# EAGLE library part 6273XX20621_62732020621 (library WR-BHD)
WR-BHD 1.27 mm Male Characteristics Working Voltage: 250 V Operating Temperature : -40°C up to 105°C UL approval: E323964 UL94-V0 Applications Industrial Production lines Details see: www.we-online.com/components/products/WTB_WR_BHD_BOX_HEADER_1_27MM_MALE Updated by Ella 2026-09-16 2026 (C) Würth Elektronik
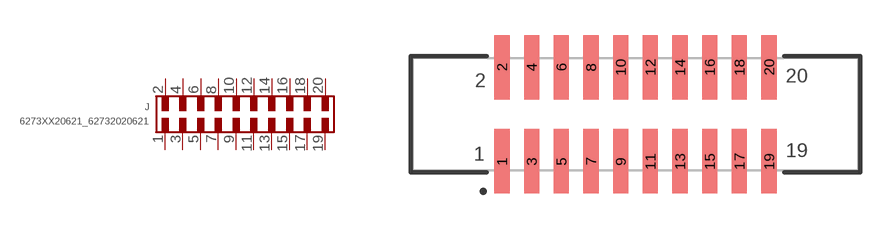
[diagram p8: symbol with the pads of 62732020621; footprint 62732020621]

Designator prefix J

## 6273XX20621_62732020621 (CATEGORY: Connectors; DATASHEET: https://www.we-online.com/redexpert/spec/62732020621?ae; GENDER: Male; LENGTH: 19.05 mm; MANUFACTURER: Würth Elektronik; MOUNT: SMT; MPN: 62732020621; OPERATING_TEMPERATURE: -40 °C up to +105 °C; PACKAGING: Tape and Reel with Cap; PINS: 20; PITCH: 1.27mm; RATED_CURRENT: 1 A; SIZE: SMT Straight; TYPE: Straight; VALUE: 62732020621)  [62732020621]
1  1  pas
2  2  pas
3  3  pas
4  4  pas
5  5  pas
6  6  pas
7  7  pas
8  8  pas
9  9  pas
10  10  pas
11  11  pas
12  12  pas
13  13  pas
14  14  pas
15  15  pas
16  16  pas
17  17  pas
18  18  pas
19  19  pas
20  20  pas

## Footprint 62732020621 (pad centres in mm)
WR-BHD Wire-to-Board Connectors, 1.27mm, Male, SMT Straight, 20pins
smd 0.65 x 2.76: 1 -5.715,-2.02; 2 -5.715,2.02; 3 -4.445,-2.02; 4 -4.445,2.02; 5 -3.175,-2.02; 6 -3.175,2.02; 7 -1.905,-2.02; 8 -1.905,2.02; 9 -0.635,-2.02; 10 -0.635,2.02; 11 0.635,-2.02; 12 0.635,2.02; 13 1.905,-2.02; 14 1.905,2.02; 15 3.175,-2.02; 16 3.175,2.02; 17 4.445,-2.02; 18 4.445,2.02; 19 5.715,-2.02; 20 5.715,2.02